# Altium footprint library Connector_Pin.PcbLib: 13 footprints
Each footprint in its own frame and in the unit in brackets; x right, y up, seen from the top. Pads: shape width x height; smd on the part's side, far side on the other; paste and mask are expansions set on the pad; w line width, h text height; cw(c..) or ccw(c..) is an arc to the next point about the centre after c.
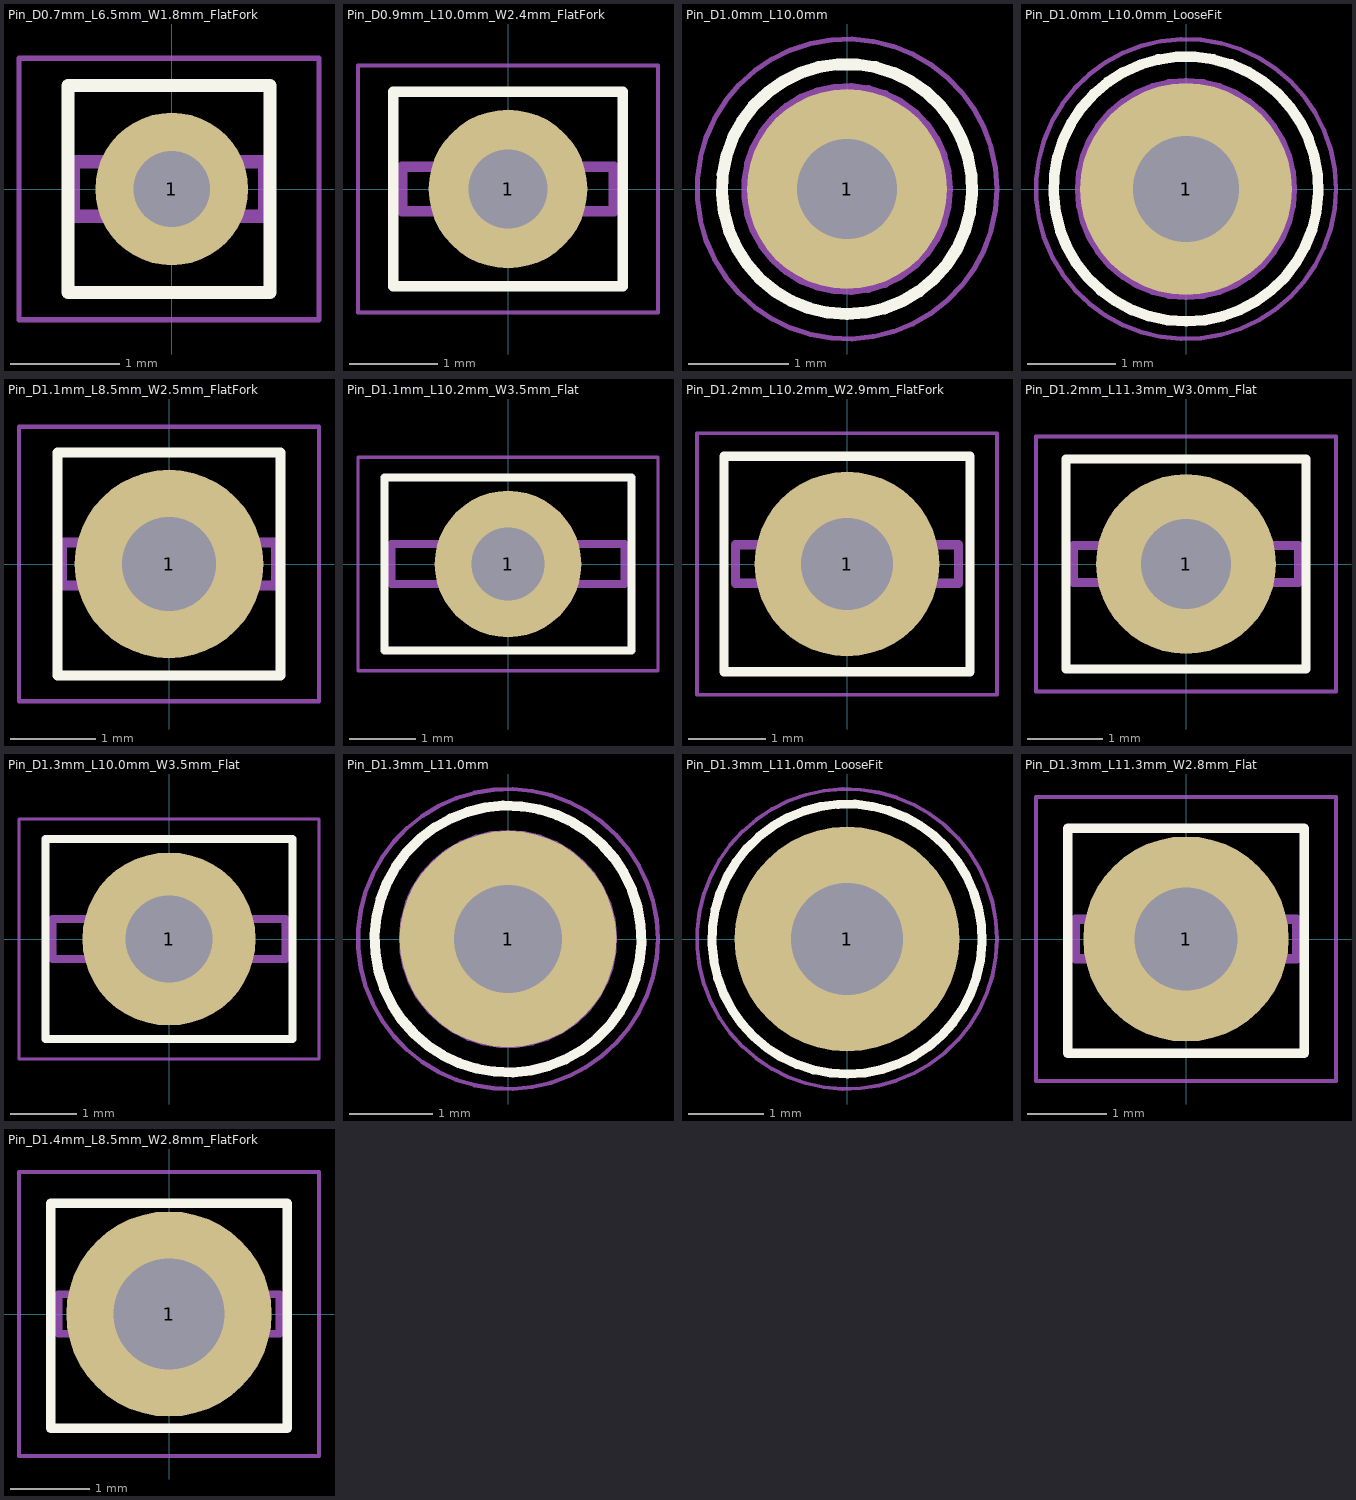
[diagram p0: the footprints below, top view; thin cyan lines are the x and y axes]

## Pin_D0.7mm_L6.5mm_W1.8mm_FlatFork [mm]
pads (1):
  round 1.4 hole 0.7: 1(0,0)
F.SilkS:
  lines w0.12: -0.95,-0.95 0.9,-0.95 0.9,0.9 0.9,0.95 -0.95,0.95 -0.95,-0.95
F.CrtYd:
  lines w0.05: -1.4,-1.2 -1.4,1.2 1.35,1.2 1.35,-1.2 -1.4,-1.2
F.Fab:
  lines w0.12: -0.9,-0.25 0.85,-0.25 0.85,0.25 -0.9,0.25 -0.9,-0.25
  text "'.Designator'" at -4.047,-2.64 h1

## Pin_D0.9mm_L10.0mm_W2.4mm_FlatFork [mm]
pads (1):
  round 1.8 hole 0.9: 1(0,0)
F.SilkS:
  lines w0.12: -1.3,-1.1 1.3,-1.1 1.3,1.1 -1.3,1.1 -1.3,-0.6 -1.3,-1.1
F.CrtYd:
  lines w0.05: -1.7,-1.4 1.7,-1.4 1.7,1.4 -1.7,1.4 -1.7,-1.4
F.Fab:
  lines w0.12: -1.2,-0.25 -1.2,0.25 1.2,0.25 1.2,-0.25 -1.2,-0.25
  text "'.Designator'" at -4.047,-2.79 h1

## Pin_D1.0mm_L10.0mm [mm]
pads (1):
  round 2 hole 1: 1(0,0)
F.SilkS:
  circle w0.12: c0,0 r1.251
F.CrtYd:
  circle w0.05: c0,0 r1.5
F.Fab:
  circle w0.12: c0,0 r1
  circle w0.12: c0,0 r0.5
  text "'.Designator'" at -4.047,-3.09 h1

## Pin_D1.0mm_L10.0mm_LooseFit [mm]
pads (1):
  round 2.4 hole 1.2: 1(0,0)
F.SilkS:
  circle w0.12: c0,0 r1.501
F.CrtYd:
  circle w0.05: c0,0 r1.7
F.Fab:
  circle w0.12: c0,0 r1.2
  circle w0.12: c0,0 r0.5
  text "'.Designator'" at -4.047,-3.09 h1

## Pin_D1.1mm_L8.5mm_W2.5mm_FlatFork [mm]
pads (1):
  round 2.2 hole 1.1: 1(0,0)
F.SilkS:
  lines w0.12: -1.3,-1.3 1.3,-1.3 1.3,1.3 -1.3,1.3 -1.3,-1.3
F.CrtYd:
  lines w0.05: -1.75,-1.6 1.75,-1.6 1.75,1.6 -1.75,1.6 -1.75,-1.6
F.Fab:
  lines w0.12: -1.25,-0.25 1.25,-0.25 1.25,0.25 -1.25,0.25 -1.25,-0.25
  text "'.Designator'" at -4.047,-2.94 h1

## Pin_D1.1mm_L10.2mm_W3.5mm_Flat [mm]
pads (1):
  round 2.2 hole 1.1: 1(0,0)
F.SilkS:
  lines w0.12: -1.85,-1.3 1.85,-1.3 1.85,1.3 -1.85,1.3 -1.85,-1.3
F.CrtYd:
  lines w0.05: -2.25,-1.6 -2.25,1.6 2.25,1.6 2.25,-1.6 -2.25,-1.6
F.Fab:
  lines w0.12: -1.75,-0.3 -1.75,0.3 1.75,0.3 1.75,-0.3 -1.75,-0.3
  text "'.Designator'" at -4.047,-2.89 h1

## Pin_D1.2mm_L10.2mm_W2.9mm_FlatFork [mm]
pads (1):
  round 2.4 hole 1.2: 1(0,0)
F.SilkS:
  lines w0.12: -1.6,-1.4 -1.6,1.4 1.6,1.4 1.6,-1.4 -1.6,-1.4
F.CrtYd:
  lines w0.05: -1.95,-1.7 -1.95,1.7 1.95,1.7 1.95,-1.7 -1.95,-1.7
F.Fab:
  lines w0.12: -1.45,-0.25 -1.45,0.25 1.45,0.25 1.45,-0.25 -1.45,-0.25
  text "'.Designator'" at -4.047,-3.04 h1

## Pin_D1.2mm_L11.3mm_W3.0mm_Flat [mm]
pads (1):
  round 2.4 hole 1.2: 1(0,0)
F.SilkS:
  lines w0.12: -1.6,-1.4 -1.6,1.4 1.6,1.4 1.6,-1.4 -1.6,-1.4
F.CrtYd:
  lines w0.05: -2,-1.7 2,-1.7 2,1.7 -2,1.7 -2,-1.7
F.Fab:
  lines w0.12: -1.5,-0.25 1.5,-0.25 1.5,0.25 -1.5,0.25 -1.5,-0.25
  text "'.Designator'" at -4.047,-3.04 h1

## Pin_D1.3mm_L10.0mm_W3.5mm_Flat [mm]
pads (1):
  round 2.6 hole 1.3: 1(0,0)
F.SilkS:
  lines w0.12: -1.85,-1.5 -1.85,1.5 1.85,1.5 1.85,-1.5 -1.85,-1.5
F.CrtYd:
  lines w0.05: -2.25,-1.8 2.25,-1.8 2.25,1.8 -2.25,1.8 -2.25,-1.8
F.Fab:
  lines w0.12: -1.75,-0.3 1.75,-0.3 1.75,0.3 -1.75,0.3 -1.75,-0.3
  text "'.Designator'" at -4.047,-3.09 h1

## Pin_D1.3mm_L11.0mm [mm]
pads (1):
  round 2.6 hole 1.3: 1(0,0)
F.SilkS:
  circle w0.12: c0,0 r1.601
F.CrtYd:
  circle w0.05: c0,0 r1.8
F.Fab:
  circle w0.12: c0,0 r1.251
  circle w0.12: c0,0 r0.652
  text "'.Designator'" at -4.047,-3.24 h1

## Pin_D1.3mm_L11.0mm_LooseFit [mm]
pads (1):
  round 3 hole 1.5: 1(0,0)
F.SilkS:
  circle w0.12: c0,0 r1.801
F.CrtYd:
  circle w0.05: c0,0 r2
F.Fab:
  circle w0.12: c0,0 r1.251
  circle w0.12: c0,0 r0.652
  text "'.Designator'" at -4.047,-3.39 h1

## Pin_D1.3mm_L11.3mm_W2.8mm_Flat [mm]
pads (1):
  round 2.6 hole 1.3: 1(0,0)
F.SilkS:
  lines w0.12: -1.5,-1.45 -1.5,1.4 1.5,1.4 1.5,-1.45 -1.5,-1.45
F.CrtYd:
  lines w0.05: -1.9,-1.8 -1.9,1.8 1.9,1.8 1.9,-1.8 -1.9,-1.8
F.Fab:
  lines w0.12: -1.4,-0.25 1.4,-0.25 1.4,0.25 -1.4,0.25 -1.4,-0.25
  text "'.Designator'" at -4.047,-3.09 h1

## Pin_D1.4mm_L8.5mm_W2.8mm_FlatFork [mm]
pads (1):
  round 2.6 hole 1.4: 1(0,0)
F.SilkS:
  lines w0.12: -1.5,-1.45 -1.5,1.4 1.5,1.4 1.5,-1.45 -1.5,-1.45
F.CrtYd:
  lines w0.05: -1.9,-1.8 -1.9,1.8 1.9,1.8 1.9,-1.8 -1.9,-1.8
F.Fab:
  lines w0.1: -1.4,-0.25 1.4,-0.25 1.4,0.25 -1.4,0.25 -1.4,-0.25
  text "'.Designator'" at -4.047,-3.09 h1